# EAGLE library part M24C64 (library SKAARHOJ)
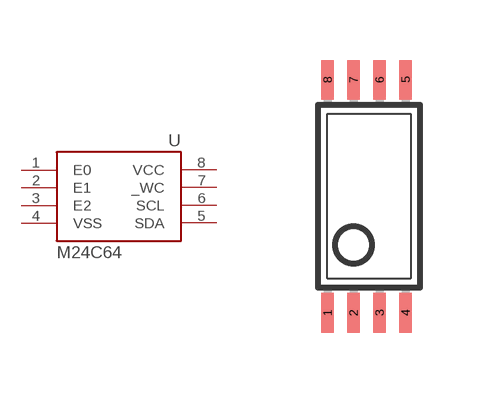
[diagram p28: symbol with the pads of TSSOP8; footprint TSSOP8]

Designator prefix -

## M24C64  [TSSOP8]
1  E0
2  E1
3  E2
4  VSS  pwr
5  SDA
6  SCL
7  _WC
8  VCC  pwr

## Footprint TSSOP8 (pad centres in mm)
smd 0.305 x 0.991: 1 -1.035,-2.918; 2 -0.385,-2.918; 3 0.265,-2.918; 4 0.915,-2.918; 5 0.915,2.918; 6 0.265,2.918; 7 -0.385,2.918; 8 -1.035,2.918